# Altium footprint library TerminalBlock_RND.PcbLib: 132 footprints (part 7 of 9)
Each footprint in its own frame and in the unit in brackets; x right, y up, seen from the top. Pads: shape width x height; smd on the part's side, far side on the other; paste and mask are expansions set on the pad; w line width, h text height; cw(c..) or ccw(c..) is an arc to the next point about the centre after c.
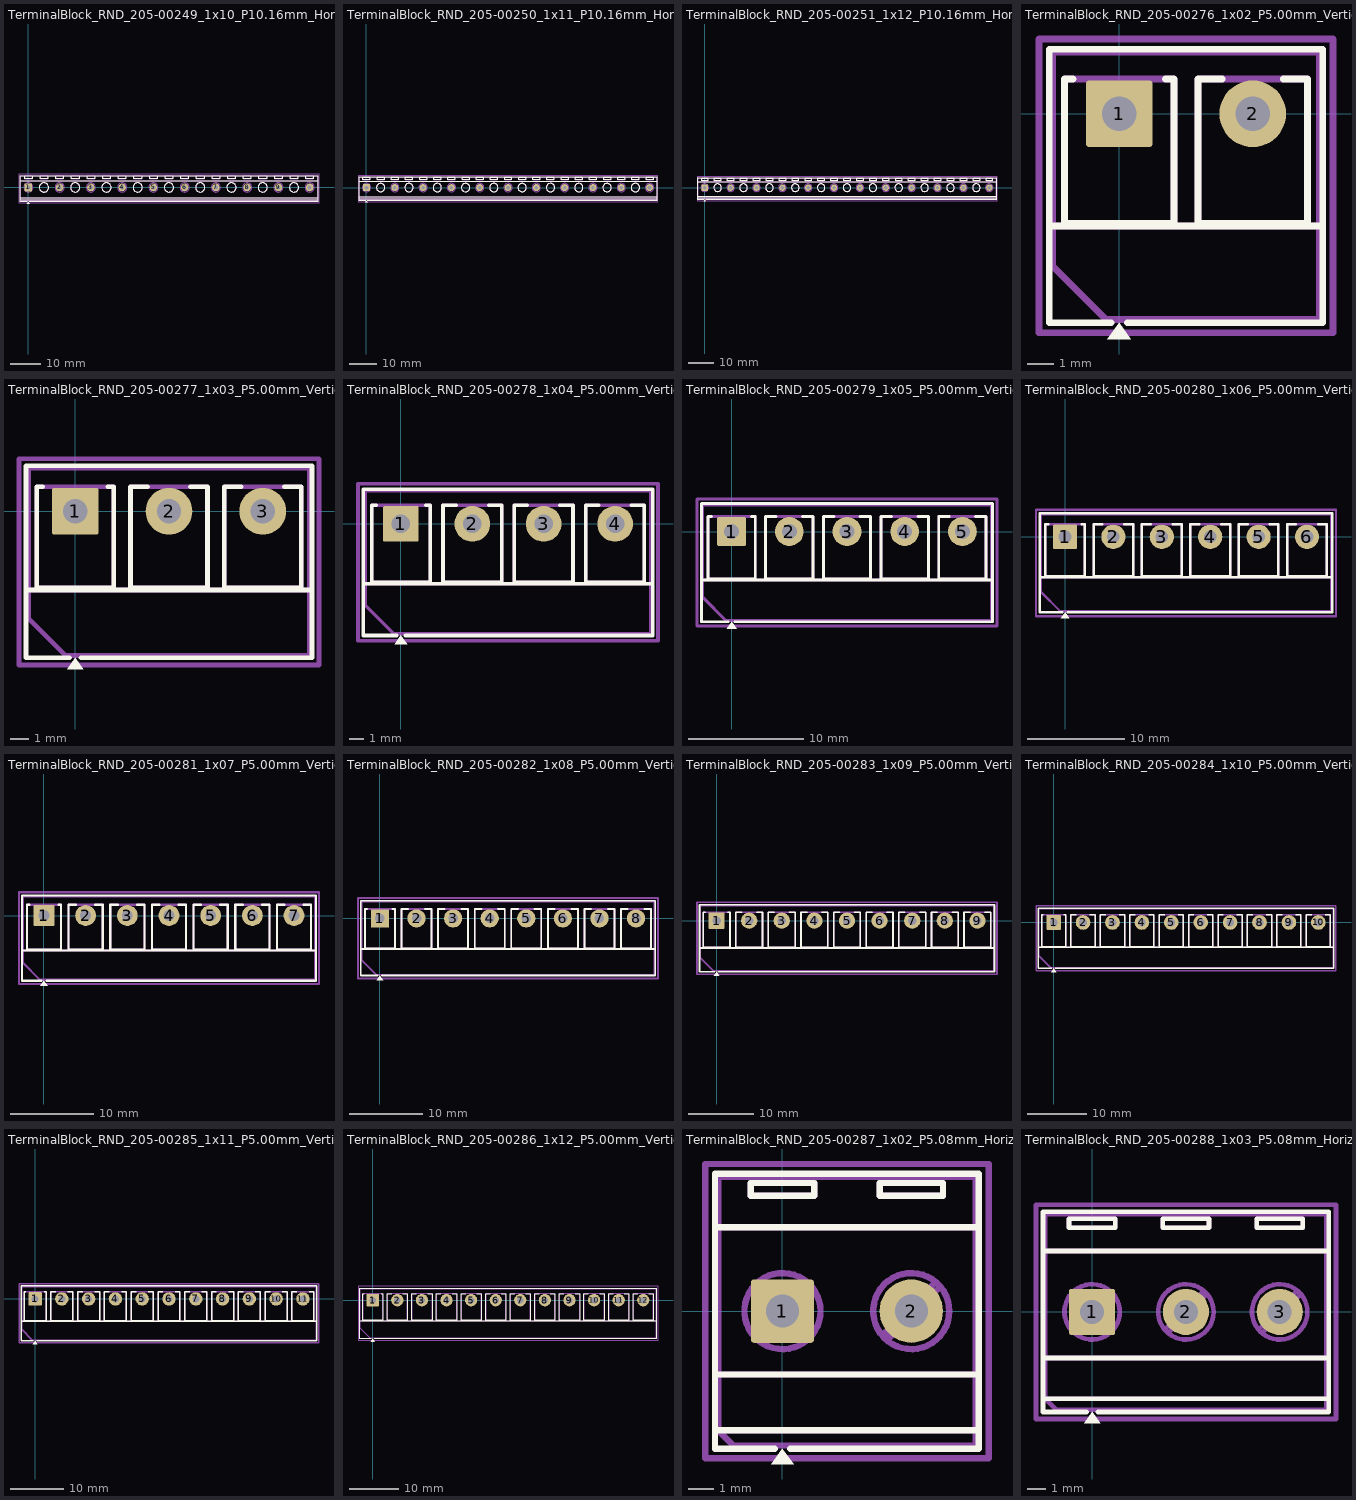
[diagram p6: the footprints below, top view; thin cyan lines are the x and y axes]

## TerminalBlock_RND_205-00249_1x10_P10.16mm_Horizontal [mm]
pads (10):
  rrect10% 2.5x2.5 hole 1.3: 1(0,0)
  round 2.5 hole 1.3: 2(10.16,0) 3(20.32,0) 4(30.48,0) 5(40.64,0) 6(50.8,0) 7(60.96,0) 8(71.12,0) 9(81.28,0) 10(91.44,0)
F.SilkS:
  circle w0.254: c5.08,0 r1.5
  circle w0.254: c15.24,0 r1.5
  circle w0.254: c25.4,0 r1.5
  circle w0.254: c35.56,0 r1.5
  circle w0.254: c45.72,0 r1.5
  circle w0.254: c55.88,0 r1.5
  circle w0.254: c66.04,0 r1.5
  circle w0.254: c76.2,0 r1.5
  circle w0.254: c86.36,0 r1.5
  region: 0.44,-5.28 -0.44,-5.28 0,-4.67
  lines w0.254: -2.66,-3.95 94.1,-3.95 ; -2.66,-3.35 94.1,-3.35 ; -2.66,2.25 94.1,2.25 ; -0.3,-4.67 -2.66,-4.67 -2.66,3.87 94.1,3.87 94.1,-4.67 0.3,-4.67 ; -1.25,2.75 -1.25,3.75 1.25,3.75 1.25,2.75 -1.25,2.75 ; 3.83,2.75 3.83,3.75 6.33,3.75 6.33,2.75 3.83,2.75 ; 8.91,2.75 8.91,3.75 11.41,3.75 11.41,2.75 8.91,2.75 ; 13.99,2.75 13.99,3.75 16.49,3.75 16.49,2.75 13.99,2.75 ; 19.07,2.75 19.07,3.75 21.57,3.75 21.57,2.75 19.07,2.75 ; 24.15,2.75 24.15,3.75 26.65,3.75 26.65,2.75 24.15,2.75 ; 29.23,2.75 29.23,3.75 31.73,3.75 31.73,2.75 29.23,2.75 ; 34.31,2.75 34.31,3.75 36.81,3.75 36.81,2.75 34.31,2.75 ; 39.39,2.75 39.39,3.75 41.89,3.75 41.89,2.75 39.39,2.75 ; 44.47,2.75 44.47,3.75 46.97,3.75 46.97,2.75 44.47,2.75 ; 49.55,2.75 49.55,3.75 52.05,3.75 52.05,2.75 49.55,2.75 ; 54.63,2.75 54.63,3.75 57.13,3.75 57.13,2.75 54.63,2.75 ; 59.71,2.75 59.71,3.75 62.21,3.75 62.21,2.75 59.71,2.75 ; 64.79,2.75 64.79,3.75 67.29,3.75 67.29,2.75 64.79,2.75 ; 69.87,2.75 69.87,3.75 72.37,3.75 72.37,2.75 69.87,2.75 ; 74.95,2.75 74.95,3.75 77.45,3.75 77.45,2.75 74.95,2.75 ; 80.03,2.75 80.03,3.75 82.53,3.75 82.53,2.75 80.03,2.75 ; 85.11,2.75 85.11,3.75 87.61,3.75 87.61,2.75 85.11,2.75 ; 90.19,2.75 90.19,3.75 92.69,3.75 92.69,2.75 90.19,2.75
F.Fab:
  circle w0.254: c0,0 r1.5
  circle w0.254: c5.08,0 r1.5
  circle w0.254: c10.16,0 r1.5
  circle w0.254: c15.24,0 r1.5
  circle w0.254: c20.32,0 r1.5
  circle w0.254: c25.4,0 r1.5
  circle w0.254: c30.48,0 r1.5
  circle w0.254: c35.56,0 r1.5
  circle w0.254: c40.64,0 r1.5
  circle w0.254: c45.72,0 r1.5
  circle w0.254: c50.8,0 r1.5
  circle w0.254: c55.88,0 r1.5
  circle w0.254: c60.96,0 r1.5
  circle w0.254: c66.04,0 r1.5
  circle w0.254: c71.12,0 r1.5
  circle w0.254: c76.2,0 r1.5
  circle w0.254: c81.28,0 r1.5
  circle w0.254: c86.36,0 r1.5
  circle w0.254: c91.44,0 r1.5
  lines w0.254: -2.54,-3.35 93.98,-3.35 ; -2.54,2.25 93.98,2.25 ; -1.138,-0.955 0.955,1.138 ; -0.955,-1.138 1.138,0.955 ; 9.022,-0.955 11.115,1.138 ; 9.205,-1.138 11.298,0.955 ; 19.182,-0.955 21.275,1.138 ; 19.365,-1.138 21.458,0.955 ; 29.342,-0.955 31.435,1.138 ; 29.525,-1.138 31.618,0.955 ; 39.502,-0.955 41.595,1.138 ; 39.685,-1.138 41.778,0.955 ; 49.662,-0.955 51.755,1.138 ; 49.845,-1.138 51.938,0.955 ; 59.822,-0.955 61.915,1.138 ; 60.005,-1.138 62.098,0.955 ; 69.982,-0.955 72.075,1.138 ; 70.165,-1.138 72.258,0.955 ; 80.142,-0.955 82.235,1.138 ; 80.325,-1.138 82.418,0.955 ; 90.302,-0.955 92.395,1.138 ; 90.485,-1.138 92.578,0.955 ; 93.98,-3.95 -2.54,-3.95 ; -2.54,-3.95 -2.54,3.75 93.98,3.75 93.98,-4.55 -1.94,-4.55 -2.54,-3.95 ; -1.25,2.75 -1.25,3.75 1.25,3.75 1.25,2.75 -1.25,2.75 ; 3.83,2.75 3.83,3.75 6.33,3.75 6.33,2.75 3.83,2.75 ; 8.91,2.75 8.91,3.75 11.41,3.75 11.41,2.75 8.91,2.75 ; 13.99,2.75 13.99,3.75 16.49,3.75 16.49,2.75 13.99,2.75 ; 19.07,2.75 19.07,3.75 21.57,3.75 21.57,2.75 19.07,2.75 ; 24.15,2.75 24.15,3.75 26.65,3.75 26.65,2.75 24.15,2.75 ; 29.23,2.75 29.23,3.75 31.73,3.75 31.73,2.75 29.23,2.75 ; 34.31,2.75 34.31,3.75 36.81,3.75 36.81,2.75 34.31,2.75 ; 39.39,2.75 39.39,3.75 41.89,3.75 41.89,2.75 39.39,2.75 ; 44.47,2.75 44.47,3.75 46.97,3.75 46.97,2.75 44.47,2.75 ; 49.55,2.75 49.55,3.75 52.05,3.75 52.05,2.75 49.55,2.75 ; 54.63,2.75 54.63,3.75 57.13,3.75 57.13,2.75 54.63,2.75 ; 59.71,2.75 59.71,3.75 62.21,3.75 62.21,2.75 59.71,2.75 ; 64.79,2.75 64.79,3.75 67.29,3.75 67.29,2.75 64.79,2.75 ; 69.87,2.75 69.87,3.75 72.37,3.75 72.37,2.75 69.87,2.75 ; 74.95,2.75 74.95,3.75 77.45,3.75 77.45,2.75 74.95,2.75 ; 80.03,2.75 80.03,3.75 82.53,3.75 82.53,2.75 80.03,2.75 ; 85.11,2.75 85.11,3.75 87.61,3.75 87.61,2.75 85.11,2.75 ; 90.19,2.75 90.19,3.75 92.69,3.75 92.69,2.75 90.19,2.75
  text "'.Designator'" at 41.673,4.03 h1
F.CrtYd:
  lines w0.254: -3.04,-5.05 -3.04,4.26 94.48,4.26 94.48,-5.05 -3.04,-5.05

## TerminalBlock_RND_205-00250_1x11_P10.16mm_Horizontal [mm]
pads (11):
  rrect10% 2.5x2.5 hole 1.3: 1(0,0)
  round 2.5 hole 1.3: 2(10.16,0) 3(20.32,0) 4(30.48,0) 5(40.64,0) 6(50.8,0) 7(60.96,0) 8(71.12,0) 9(81.28,0) 10(91.44,0) 11(101.6,0)
F.SilkS:
  circle w0.254: c5.08,0 r1.5
  circle w0.254: c15.24,0 r1.5
  circle w0.254: c25.4,0 r1.5
  circle w0.254: c35.56,0 r1.5
  circle w0.254: c45.72,0 r1.5
  circle w0.254: c55.88,0 r1.5
  circle w0.254: c66.04,0 r1.5
  circle w0.254: c76.2,0 r1.5
  circle w0.254: c86.36,0 r1.5
  circle w0.254: c96.52,0 r1.5
  region: 0.44,-5.28 -0.44,-5.28 0,-4.67
  lines w0.254: -2.66,-3.95 104.26,-3.95 ; -2.66,-3.35 104.26,-3.35 ; -2.66,2.25 104.26,2.25 ; -0.3,-4.67 -2.66,-4.67 -2.66,3.87 104.26,3.87 104.26,-4.67 0.3,-4.67 ; -1.25,2.75 -1.25,3.75 1.25,3.75 1.25,2.75 -1.25,2.75 ; 3.83,2.75 3.83,3.75 6.33,3.75 6.33,2.75 3.83,2.75 ; 8.91,2.75 8.91,3.75 11.41,3.75 11.41,2.75 8.91,2.75 ; 13.99,2.75 13.99,3.75 16.49,3.75 16.49,2.75 13.99,2.75 ; 19.07,2.75 19.07,3.75 21.57,3.75 21.57,2.75 19.07,2.75 ; 24.15,2.75 24.15,3.75 26.65,3.75 26.65,2.75 24.15,2.75 ; 29.23,2.75 29.23,3.75 31.73,3.75 31.73,2.75 29.23,2.75 ; 34.31,2.75 34.31,3.75 36.81,3.75 36.81,2.75 34.31,2.75 ; 39.39,2.75 39.39,3.75 41.89,3.75 41.89,2.75 39.39,2.75 ; 44.47,2.75 44.47,3.75 46.97,3.75 46.97,2.75 44.47,2.75 ; 49.55,2.75 49.55,3.75 52.05,3.75 52.05,2.75 49.55,2.75 ; 54.63,2.75 54.63,3.75 57.13,3.75 57.13,2.75 54.63,2.75 ; 59.71,2.75 59.71,3.75 62.21,3.75 62.21,2.75 59.71,2.75 ; 64.79,2.75 64.79,3.75 67.29,3.75 67.29,2.75 64.79,2.75 ; 69.87,2.75 69.87,3.75 72.37,3.75 72.37,2.75 69.87,2.75 ; 74.95,2.75 74.95,3.75 77.45,3.75 77.45,2.75 74.95,2.75 ; 80.03,2.75 80.03,3.75 82.53,3.75 82.53,2.75 80.03,2.75 ; 85.11,2.75 85.11,3.75 87.61,3.75 87.61,2.75 85.11,2.75 ; 90.19,2.75 90.19,3.75 92.69,3.75 92.69,2.75 90.19,2.75 ; 95.27,2.75 95.27,3.75 97.77,3.75 97.77,2.75 95.27,2.75 ; 100.35,2.75 100.35,3.75 102.85,3.75 102.85,2.75 100.35,2.75
F.Fab:
  circle w0.254: c0,0 r1.5
  circle w0.254: c5.08,0 r1.5
  circle w0.254: c10.16,0 r1.5
  circle w0.254: c15.24,0 r1.5
  circle w0.254: c20.32,0 r1.5
  circle w0.254: c25.4,0 r1.5
  circle w0.254: c30.48,0 r1.5
  circle w0.254: c35.56,0 r1.5
  circle w0.254: c40.64,0 r1.5
  circle w0.254: c45.72,0 r1.5
  circle w0.254: c50.8,0 r1.5
  circle w0.254: c55.88,0 r1.5
  circle w0.254: c60.96,0 r1.5
  circle w0.254: c66.04,0 r1.5
  circle w0.254: c71.12,0 r1.5
  circle w0.254: c76.2,0 r1.5
  circle w0.254: c81.28,0 r1.5
  circle w0.254: c86.36,0 r1.5
  circle w0.254: c91.44,0 r1.5
  circle w0.254: c96.52,0 r1.5
  circle w0.254: c101.6,0 r1.5
  lines w0.254: -2.54,-3.35 104.14,-3.35 ; -2.54,2.25 104.14,2.25 ; -1.138,-0.955 0.955,1.138 ; -0.955,-1.138 1.138,0.955 ; 9.022,-0.955 11.115,1.138 ; 9.205,-1.138 11.298,0.955 ; 19.182,-0.955 21.275,1.138 ; 19.365,-1.138 21.458,0.955 ; 29.342,-0.955 31.435,1.138 ; 29.525,-1.138 31.618,0.955 ; 39.502,-0.955 41.595,1.138 ; 39.685,-1.138 41.778,0.955 ; 49.662,-0.955 51.755,1.138 ; 49.845,-1.138 51.938,0.955 ; 59.822,-0.955 61.915,1.138 ; 60.005,-1.138 62.098,0.955 ; 69.982,-0.955 72.075,1.138 ; 70.165,-1.138 72.258,0.955 ; 80.142,-0.955 82.235,1.138 ; 80.325,-1.138 82.418,0.955 ; 90.302,-0.955 92.395,1.138 ; 90.485,-1.138 92.578,0.955 ; 100.462,-0.955 102.555,1.138 ; 100.645,-1.138 102.738,0.955 ; 104.14,-3.95 -2.54,-3.95 ; -2.54,-3.95 -2.54,3.75 104.14,3.75 104.14,-4.55 -1.94,-4.55 -2.54,-3.95 ; -1.25,2.75 -1.25,3.75 1.25,3.75 1.25,2.75 -1.25,2.75 ; 3.83,2.75 3.83,3.75 6.33,3.75 6.33,2.75 3.83,2.75 ; 8.91,2.75 8.91,3.75 11.41,3.75 11.41,2.75 8.91,2.75 ; 13.99,2.75 13.99,3.75 16.49,3.75 16.49,2.75 13.99,2.75 ; 19.07,2.75 19.07,3.75 21.57,3.75 21.57,2.75 19.07,2.75 ; 24.15,2.75 24.15,3.75 26.65,3.75 26.65,2.75 24.15,2.75 ; 29.23,2.75 29.23,3.75 31.73,3.75 31.73,2.75 29.23,2.75 ; 34.31,2.75 34.31,3.75 36.81,3.75 36.81,2.75 34.31,2.75 ; 39.39,2.75 39.39,3.75 41.89,3.75 41.89,2.75 39.39,2.75 ; 44.47,2.75 44.47,3.75 46.97,3.75 46.97,2.75 44.47,2.75 ; 49.55,2.75 49.55,3.75 52.05,3.75 52.05,2.75 49.55,2.75 ; 54.63,2.75 54.63,3.75 57.13,3.75 57.13,2.75 54.63,2.75 ; 59.71,2.75 59.71,3.75 62.21,3.75 62.21,2.75 59.71,2.75 ; 64.79,2.75 64.79,3.75 67.29,3.75 67.29,2.75 64.79,2.75 ; 69.87,2.75 69.87,3.75 72.37,3.75 72.37,2.75 69.87,2.75 ; 74.95,2.75 74.95,3.75 77.45,3.75 77.45,2.75 74.95,2.75 ; 80.03,2.75 80.03,3.75 82.53,3.75 82.53,2.75 80.03,2.75 ; 85.11,2.75 85.11,3.75 87.61,3.75 87.61,2.75 85.11,2.75 ; 90.19,2.75 90.19,3.75 92.69,3.75 92.69,2.75 90.19,2.75 ; 95.27,2.75 95.27,3.75 97.77,3.75 97.77,2.75 95.27,2.75 ; 100.35,2.75 100.35,3.75 102.85,3.75 102.85,2.75 100.35,2.75
  text "'.Designator'" at 46.753,4.03 h1
F.CrtYd:
  lines w0.254: -3.04,-5.05 -3.04,4.26 104.64,4.26 104.64,-5.05 -3.04,-5.05

## TerminalBlock_RND_205-00251_1x12_P10.16mm_Horizontal [mm]
pads (12):
  rrect10% 2.5x2.5 hole 1.3: 1(0,0)
  round 2.5 hole 1.3: 2(10.16,0) 3(20.32,0) 4(30.48,0) 5(40.64,0) 6(50.8,0) 7(60.96,0) 8(71.12,0) 9(81.28,0) 10(91.44,0) 11(101.6,0) 12(111.76,0)
F.SilkS:
  circle w0.254: c5.08,0 r1.5
  circle w0.254: c15.24,0 r1.5
  circle w0.254: c25.4,0 r1.5
  circle w0.254: c35.56,0 r1.5
  circle w0.254: c45.72,0 r1.5
  circle w0.254: c55.88,0 r1.5
  circle w0.254: c66.04,0 r1.5
  circle w0.254: c76.2,0 r1.5
  circle w0.254: c86.36,0 r1.5
  circle w0.254: c96.52,0 r1.5
  circle w0.254: c106.68,0 r1.5
  region: 0.44,-5.28 -0.44,-5.28 0,-4.67
  lines w0.254: -2.66,-3.95 114.42,-3.95 ; -2.66,-3.35 114.42,-3.35 ; -2.66,2.25 114.42,2.25 ; -0.3,-4.67 -2.66,-4.67 -2.66,3.87 114.42,3.87 114.42,-4.67 0.3,-4.67 ; -1.25,2.75 -1.25,3.75 1.25,3.75 1.25,2.75 -1.25,2.75 ; 3.83,2.75 3.83,3.75 6.33,3.75 6.33,2.75 3.83,2.75 ; 8.91,2.75 8.91,3.75 11.41,3.75 11.41,2.75 8.91,2.75 ; 13.99,2.75 13.99,3.75 16.49,3.75 16.49,2.75 13.99,2.75 ; 19.07,2.75 19.07,3.75 21.57,3.75 21.57,2.75 19.07,2.75 ; 24.15,2.75 24.15,3.75 26.65,3.75 26.65,2.75 24.15,2.75 ; 29.23,2.75 29.23,3.75 31.73,3.75 31.73,2.75 29.23,2.75 ; 34.31,2.75 34.31,3.75 36.81,3.75 36.81,2.75 34.31,2.75 ; 39.39,2.75 39.39,3.75 41.89,3.75 41.89,2.75 39.39,2.75 ; 44.47,2.75 44.47,3.75 46.97,3.75 46.97,2.75 44.47,2.75 ; 49.55,2.75 49.55,3.75 52.05,3.75 52.05,2.75 49.55,2.75 ; 54.63,2.75 54.63,3.75 57.13,3.75 57.13,2.75 54.63,2.75 ; 59.71,2.75 59.71,3.75 62.21,3.75 62.21,2.75 59.71,2.75 ; 64.79,2.75 64.79,3.75 67.29,3.75 67.29,2.75 64.79,2.75 ; 69.87,2.75 69.87,3.75 72.37,3.75 72.37,2.75 69.87,2.75 ; 74.95,2.75 74.95,3.75 77.45,3.75 77.45,2.75 74.95,2.75 ; 80.03,2.75 80.03,3.75 82.53,3.75 82.53,2.75 80.03,2.75 ; 85.11,2.75 85.11,3.75 87.61,3.75 87.61,2.75 85.11,2.75 ; 90.19,2.75 90.19,3.75 92.69,3.75 92.69,2.75 90.19,2.75 ; 95.27,2.75 95.27,3.75 97.77,3.75 97.77,2.75 95.27,2.75 ; 100.35,2.75 100.35,3.75 102.85,3.75 102.85,2.75 100.35,2.75 ; 105.43,2.75 105.43,3.75 107.93,3.75 107.93,2.75 105.43,2.75 ; 110.51,2.75 110.51,3.75 113.01,3.75 113.01,2.75 110.51,2.75
F.Fab:
  circle w0.254: c0,0 r1.5
  circle w0.254: c5.08,0 r1.5
  circle w0.254: c10.16,0 r1.5
  circle w0.254: c15.24,0 r1.5
  circle w0.254: c20.32,0 r1.5
  circle w0.254: c25.4,0 r1.5
  circle w0.254: c30.48,0 r1.5
  circle w0.254: c35.56,0 r1.5
  circle w0.254: c40.64,0 r1.5
  circle w0.254: c45.72,0 r1.5
  circle w0.254: c50.8,0 r1.5
  circle w0.254: c55.88,0 r1.5
  circle w0.254: c60.96,0 r1.5
  circle w0.254: c66.04,0 r1.5
  circle w0.254: c71.12,0 r1.5
  circle w0.254: c76.2,0 r1.5
  circle w0.254: c81.28,0 r1.5
  circle w0.254: c86.36,0 r1.5
  circle w0.254: c91.44,0 r1.5
  circle w0.254: c96.52,0 r1.5
  circle w0.254: c101.6,0 r1.5
  circle w0.254: c106.68,0 r1.5
  circle w0.254: c111.76,0 r1.5
  lines w0.254: -2.54,-3.35 114.3,-3.35 ; -2.54,2.25 114.3,2.25 ; -1.138,-0.955 0.955,1.138 ; -0.955,-1.138 1.138,0.955 ; 9.022,-0.955 11.115,1.138 ; 9.205,-1.138 11.298,0.955 ; 19.182,-0.955 21.275,1.138 ; 19.365,-1.138 21.458,0.955 ; 29.342,-0.955 31.435,1.138 ; 29.525,-1.138 31.618,0.955 ; 39.502,-0.955 41.595,1.138 ; 39.685,-1.138 41.778,0.955 ; 49.662,-0.955 51.755,1.138 ; 49.845,-1.138 51.938,0.955 ; 59.822,-0.955 61.915,1.138 ; 60.005,-1.138 62.098,0.955 ; 69.982,-0.955 72.075,1.138 ; 70.165,-1.138 72.258,0.955 ; 80.142,-0.955 82.235,1.138 ; 80.325,-1.138 82.418,0.955 ; 90.302,-0.955 92.395,1.138 ; 90.485,-1.138 92.578,0.955 ; 100.462,-0.955 102.555,1.138 ; 100.645,-1.138 102.738,0.955 ; 110.622,-0.955 112.715,1.138 ; 110.805,-1.138 112.898,0.955 ; 114.3,-3.95 -2.54,-3.95 ; -2.54,-3.95 -2.54,3.75 114.3,3.75 114.3,-4.55 -1.94,-4.55 -2.54,-3.95 ; -1.25,2.75 -1.25,3.75 1.25,3.75 1.25,2.75 -1.25,2.75 ; 3.83,2.75 3.83,3.75 6.33,3.75 6.33,2.75 3.83,2.75 ; 8.91,2.75 8.91,3.75 11.41,3.75 11.41,2.75 8.91,2.75 ; 13.99,2.75 13.99,3.75 16.49,3.75 16.49,2.75 13.99,2.75 ; 19.07,2.75 19.07,3.75 21.57,3.75 21.57,2.75 19.07,2.75 ; 24.15,2.75 24.15,3.75 26.65,3.75 26.65,2.75 24.15,2.75 ; 29.23,2.75 29.23,3.75 31.73,3.75 31.73,2.75 29.23,2.75 ; 34.31,2.75 34.31,3.75 36.81,3.75 36.81,2.75 34.31,2.75 ; 39.39,2.75 39.39,3.75 41.89,3.75 41.89,2.75 39.39,2.75 ; 44.47,2.75 44.47,3.75 46.97,3.75 46.97,2.75 44.47,2.75 ; 49.55,2.75 49.55,3.75 52.05,3.75 52.05,2.75 49.55,2.75 ; 54.63,2.75 54.63,3.75 57.13,3.75 57.13,2.75 54.63,2.75 ; 59.71,2.75 59.71,3.75 62.21,3.75 62.21,2.75 59.71,2.75 ; 64.79,2.75 64.79,3.75 67.29,3.75 67.29,2.75 64.79,2.75 ; 69.87,2.75 69.87,3.75 72.37,3.75 72.37,2.75 69.87,2.75 ; 74.95,2.75 74.95,3.75 77.45,3.75 77.45,2.75 74.95,2.75 ; 80.03,2.75 80.03,3.75 82.53,3.75 82.53,2.75 80.03,2.75 ; 85.11,2.75 85.11,3.75 87.61,3.75 87.61,2.75 85.11,2.75 ; 90.19,2.75 90.19,3.75 92.69,3.75 92.69,2.75 90.19,2.75 ; 95.27,2.75 95.27,3.75 97.77,3.75 97.77,2.75 95.27,2.75 ; 100.35,2.75 100.35,3.75 102.85,3.75 102.85,2.75 100.35,2.75 ; 105.43,2.75 105.43,3.75 107.93,3.75 107.93,2.75 105.43,2.75 ; 110.51,2.75 110.51,3.75 113.01,3.75 113.01,2.75 110.51,2.75
  text "'.Designator'" at 51.833,4.03 h1
F.CrtYd:
  lines w0.254: -3.04,-5.05 -3.04,4.26 114.8,4.26 114.8,-5.05 -3.04,-5.05

## TerminalBlock_RND_205-00276_1x02_P5.00mm_Vertical [mm]
pads (2):
  rrect10% 2.5x2.5 hole 1.3: 1(0,0)
  round 2.5 hole 1.3: 2(5,0)
F.SilkS:
  region: 0.44,-8.43 -0.44,-8.43 0,-7.82
  lines w0.254: -2.62,-4.2 7.62,-4.2 ; -1.73,1.3 -2.05,1.3 -2.05,-4.1 2.05,-4.1 2.05,1.3 1.73,1.3 ; -0.3,-7.82 -2.62,-7.82 -2.62,2.42 7.62,2.42 7.62,-7.82 0.3,-7.82 ; 3.859,1.3 2.95,1.3 2.95,-4.1 7.05,-4.1 7.05,1.3 6.141,1.3
F.Fab:
  lines w0.254: -2.5,-4.2 7.5,-4.2 ; -2.5,-5.7 -2.5,2.3 7.5,2.3 7.5,-7.7 -0.5,-7.7 -2.5,-5.7 ; -2.05,-4.1 -2.05,1.3 2.05,1.3 2.05,-4.1 -2.05,-4.1 ; 2.95,-4.1 2.95,1.3 7.05,1.3 7.05,-4.1 2.95,-4.1
  text "'.Designator'" at -1.547,-6.54 h1
F.CrtYd:
  lines w0.254: -3,-8.2 -3,2.8 8,2.8 8,-8.2 -3,-8.2

## TerminalBlock_RND_205-00277_1x03_P5.00mm_Vertical [mm]
pads (3):
  rrect10% 2.5x2.5 hole 1.3: 1(0,0)
  round 2.5 hole 1.3: 2(5,0) 3(10,0)
F.SilkS:
  region: 0.44,-8.43 -0.44,-8.43 0,-7.82
  lines w0.254: -2.62,-4.2 12.62,-4.2 ; -1.73,1.3 -2.05,1.3 -2.05,-4.1 2.05,-4.1 2.05,1.3 1.73,1.3 ; -0.3,-7.82 -2.62,-7.82 -2.62,2.42 12.62,2.42 12.62,-7.82 0.3,-7.82 ; 3.859,1.3 2.95,1.3 2.95,-4.1 7.05,-4.1 7.05,1.3 6.141,1.3 ; 8.859,1.3 7.95,1.3 7.95,-4.1 12.05,-4.1 12.05,1.3 11.141,1.3
F.Fab:
  lines w0.254: -2.5,-4.2 12.5,-4.2 ; -2.5,-5.7 -2.5,2.3 12.5,2.3 12.5,-7.7 -0.5,-7.7 -2.5,-5.7 ; -2.05,-4.1 -2.05,1.3 2.05,1.3 2.05,-4.1 -2.05,-4.1 ; 2.95,-4.1 2.95,1.3 7.05,1.3 7.05,-4.1 2.95,-4.1 ; 7.95,-4.1 7.95,1.3 12.05,1.3 12.05,-4.1 7.95,-4.1
  text "'.Designator'" at 0.953,-6.54 h1
F.CrtYd:
  lines w0.254: -3,-8.2 -3,2.8 13,2.8 13,-8.2 -3,-8.2

## TerminalBlock_RND_205-00278_1x04_P5.00mm_Vertical [mm]
pads (4):
  rrect10% 2.5x2.5 hole 1.3: 1(0,0)
  round 2.5 hole 1.3: 2(5,0) 3(10,0) 4(15,0)
F.SilkS:
  region: 0.44,-8.43 -0.44,-8.43 0,-7.82
  lines w0.254: -2.62,-4.2 17.62,-4.2 ; -1.73,1.3 -2.05,1.3 -2.05,-4.1 2.05,-4.1 2.05,1.3 1.73,1.3 ; -0.3,-7.82 -2.62,-7.82 -2.62,2.42 17.62,2.42 17.62,-7.82 0.3,-7.82 ; 3.859,1.3 2.95,1.3 2.95,-4.1 7.05,-4.1 7.05,1.3 6.141,1.3 ; 8.859,1.3 7.95,1.3 7.95,-4.1 12.05,-4.1 12.05,1.3 11.141,1.3 ; 13.859,1.3 12.95,1.3 12.95,-4.1 17.05,-4.1 17.05,1.3 16.141,1.3
F.Fab:
  lines w0.254: -2.5,-4.2 17.5,-4.2 ; -2.5,-5.7 -2.5,2.3 17.5,2.3 17.5,-7.7 -0.5,-7.7 -2.5,-5.7 ; -2.05,-4.1 -2.05,1.3 2.05,1.3 2.05,-4.1 -2.05,-4.1 ; 2.95,-4.1 2.95,1.3 7.05,1.3 7.05,-4.1 2.95,-4.1 ; 7.95,-4.1 7.95,1.3 12.05,1.3 12.05,-4.1 7.95,-4.1 ; 12.95,-4.1 12.95,1.3 17.05,1.3 17.05,-4.1 12.95,-4.1
  text "'.Designator'" at 3.453,-6.54 h1
F.CrtYd:
  lines w0.254: -3,-8.2 -3,2.8 18,2.8 18,-8.2 -3,-8.2

## TerminalBlock_RND_205-00279_1x05_P5.00mm_Vertical [mm]
pads (5):
  rrect10% 2.5x2.5 hole 1.3: 1(0,0)
  round 2.5 hole 1.3: 2(5,0) 3(10,0) 4(15,0) 5(20,0)
F.SilkS:
  region: 0.44,-8.43 -0.44,-8.43 0,-7.82
  lines w0.254: -2.62,-4.2 22.62,-4.2 ; -1.73,1.3 -2.05,1.3 -2.05,-4.1 2.05,-4.1 2.05,1.3 1.73,1.3 ; -0.3,-7.82 -2.62,-7.82 -2.62,2.42 22.62,2.42 22.62,-7.82 0.3,-7.82 ; 3.859,1.3 2.95,1.3 2.95,-4.1 7.05,-4.1 7.05,1.3 6.141,1.3 ; 8.859,1.3 7.95,1.3 7.95,-4.1 12.05,-4.1 12.05,1.3 11.141,1.3 ; 13.859,1.3 12.95,1.3 12.95,-4.1 17.05,-4.1 17.05,1.3 16.141,1.3 ; 18.859,1.3 17.95,1.3 17.95,-4.1 22.05,-4.1 22.05,1.3 21.141,1.3
F.Fab:
  lines w0.254: -2.5,-4.2 22.5,-4.2 ; -2.5,-5.7 -2.5,2.3 22.5,2.3 22.5,-7.7 -0.5,-7.7 -2.5,-5.7 ; -2.05,-4.1 -2.05,1.3 2.05,1.3 2.05,-4.1 -2.05,-4.1 ; 2.95,-4.1 2.95,1.3 7.05,1.3 7.05,-4.1 2.95,-4.1 ; 7.95,-4.1 7.95,1.3 12.05,1.3 12.05,-4.1 7.95,-4.1 ; 12.95,-4.1 12.95,1.3 17.05,1.3 17.05,-4.1 12.95,-4.1 ; 17.95,-4.1 17.95,1.3 22.05,1.3 22.05,-4.1 17.95,-4.1
  text "'.Designator'" at 5.953,-6.54 h1
F.CrtYd:
  lines w0.254: -3,-8.2 -3,2.8 23,2.8 23,-8.2 -3,-8.2

## TerminalBlock_RND_205-00280_1x06_P5.00mm_Vertical [mm]
pads (6):
  rrect10% 2.5x2.5 hole 1.3: 1(0,0)
  round 2.5 hole 1.3: 2(5,0) 3(10,0) 4(15,0) 5(20,0) 6(25,0)
F.SilkS:
  region: 0.44,-8.43 -0.44,-8.43 0,-7.82
  lines w0.254: -2.62,-4.2 27.62,-4.2 ; -1.73,1.3 -2.05,1.3 -2.05,-4.1 2.05,-4.1 2.05,1.3 1.73,1.3 ; -0.3,-7.82 -2.62,-7.82 -2.62,2.42 27.62,2.42 27.62,-7.82 0.3,-7.82 ; 3.859,1.3 2.95,1.3 2.95,-4.1 7.05,-4.1 7.05,1.3 6.141,1.3 ; 8.859,1.3 7.95,1.3 7.95,-4.1 12.05,-4.1 12.05,1.3 11.141,1.3 ; 13.859,1.3 12.95,1.3 12.95,-4.1 17.05,-4.1 17.05,1.3 16.141,1.3 ; 18.859,1.3 17.95,1.3 17.95,-4.1 22.05,-4.1 22.05,1.3 21.141,1.3 ; 23.859,1.3 22.95,1.3 22.95,-4.1 27.05,-4.1 27.05,1.3 26.141,1.3
F.Fab:
  lines w0.254: -2.5,-4.2 27.5,-4.2 ; -2.5,-5.7 -2.5,2.3 27.5,2.3 27.5,-7.7 -0.5,-7.7 -2.5,-5.7 ; -2.05,-4.1 -2.05,1.3 2.05,1.3 2.05,-4.1 -2.05,-4.1 ; 2.95,-4.1 2.95,1.3 7.05,1.3 7.05,-4.1 2.95,-4.1 ; 7.95,-4.1 7.95,1.3 12.05,1.3 12.05,-4.1 7.95,-4.1 ; 12.95,-4.1 12.95,1.3 17.05,1.3 17.05,-4.1 12.95,-4.1 ; 17.95,-4.1 17.95,1.3 22.05,1.3 22.05,-4.1 17.95,-4.1 ; 22.95,-4.1 22.95,1.3 27.05,1.3 27.05,-4.1 22.95,-4.1
  text "'.Designator'" at 8.453,-6.54 h1
F.CrtYd:
  lines w0.254: -3,-8.2 -3,2.8 28,2.8 28,-8.2 -3,-8.2

## TerminalBlock_RND_205-00281_1x07_P5.00mm_Vertical [mm]
pads (7):
  rrect10% 2.5x2.5 hole 1.3: 1(0,0)
  round 2.5 hole 1.3: 2(5,0) 3(10,0) 4(15,0) 5(20,0) 6(25,0) 7(30,0)
F.SilkS:
  region: 0.44,-8.43 -0.44,-8.43 0,-7.82
  lines w0.254: -2.62,-4.2 32.62,-4.2 ; -1.73,1.3 -2.05,1.3 -2.05,-4.1 2.05,-4.1 2.05,1.3 1.73,1.3 ; -0.3,-7.82 -2.62,-7.82 -2.62,2.42 32.62,2.42 32.62,-7.82 0.3,-7.82 ; 3.859,1.3 2.95,1.3 2.95,-4.1 7.05,-4.1 7.05,1.3 6.141,1.3 ; 8.859,1.3 7.95,1.3 7.95,-4.1 12.05,-4.1 12.05,1.3 11.141,1.3 ; 13.859,1.3 12.95,1.3 12.95,-4.1 17.05,-4.1 17.05,1.3 16.141,1.3 ; 18.859,1.3 17.95,1.3 17.95,-4.1 22.05,-4.1 22.05,1.3 21.141,1.3 ; 23.859,1.3 22.95,1.3 22.95,-4.1 27.05,-4.1 27.05,1.3 26.141,1.3 ; 28.859,1.3 27.95,1.3 27.95,-4.1 32.05,-4.1 32.05,1.3 31.141,1.3
F.Fab:
  lines w0.254: -2.5,-4.2 32.5,-4.2 ; -2.5,-5.7 -2.5,2.3 32.5,2.3 32.5,-7.7 -0.5,-7.7 -2.5,-5.7 ; -2.05,-4.1 -2.05,1.3 2.05,1.3 2.05,-4.1 -2.05,-4.1 ; 2.95,-4.1 2.95,1.3 7.05,1.3 7.05,-4.1 2.95,-4.1 ; 7.95,-4.1 7.95,1.3 12.05,1.3 12.05,-4.1 7.95,-4.1 ; 12.95,-4.1 12.95,1.3 17.05,1.3 17.05,-4.1 12.95,-4.1 ; 17.95,-4.1 17.95,1.3 22.05,1.3 22.05,-4.1 17.95,-4.1 ; 22.95,-4.1 22.95,1.3 27.05,1.3 27.05,-4.1 22.95,-4.1 ; 27.95,-4.1 27.95,1.3 32.05,1.3 32.05,-4.1 27.95,-4.1
  text "'.Designator'" at 10.953,-6.54 h1
F.CrtYd:
  lines w0.254: -3,-8.2 -3,2.8 33,2.8 33,-8.2 -3,-8.2

## TerminalBlock_RND_205-00282_1x08_P5.00mm_Vertical [mm]
pads (8):
  rrect10% 2.5x2.5 hole 1.3: 1(0,0)
  round 2.5 hole 1.3: 2(5,0) 3(10,0) 4(15,0) 5(20,0) 6(25,0) 7(30,0) 8(35,0)
F.SilkS:
  region: 0.44,-8.43 -0.44,-8.43 0,-7.82
  lines w0.254: -2.62,-4.2 37.62,-4.2 ; -1.73,1.3 -2.05,1.3 -2.05,-4.1 2.05,-4.1 2.05,1.3 1.73,1.3 ; -0.3,-7.82 -2.62,-7.82 -2.62,2.42 37.62,2.42 37.62,-7.82 0.3,-7.82 ; 3.859,1.3 2.95,1.3 2.95,-4.1 7.05,-4.1 7.05,1.3 6.141,1.3 ; 8.859,1.3 7.95,1.3 7.95,-4.1 12.05,-4.1 12.05,1.3 11.141,1.3 ; 13.859,1.3 12.95,1.3 12.95,-4.1 17.05,-4.1 17.05,1.3 16.141,1.3 ; 18.859,1.3 17.95,1.3 17.95,-4.1 22.05,-4.1 22.05,1.3 21.141,1.3 ; 23.859,1.3 22.95,1.3 22.95,-4.1 27.05,-4.1 27.05,1.3 26.141,1.3 ; 28.859,1.3 27.95,1.3 27.95,-4.1 32.05,-4.1 32.05,1.3 31.141,1.3 ; 33.859,1.3 32.95,1.3 32.95,-4.1 37.05,-4.1 37.05,1.3 36.141,1.3
F.Fab:
  lines w0.254: -2.5,-4.2 37.5,-4.2 ; -2.5,-5.7 -2.5,2.3 37.5,2.3 37.5,-7.7 -0.5,-7.7 -2.5,-5.7 ; -2.05,-4.1 -2.05,1.3 2.05,1.3 2.05,-4.1 -2.05,-4.1 ; 2.95,-4.1 2.95,1.3 7.05,1.3 7.05,-4.1 2.95,-4.1 ; 7.95,-4.1 7.95,1.3 12.05,1.3 12.05,-4.1 7.95,-4.1 ; 12.95,-4.1 12.95,1.3 17.05,1.3 17.05,-4.1 12.95,-4.1 ; 17.95,-4.1 17.95,1.3 22.05,1.3 22.05,-4.1 17.95,-4.1 ; 22.95,-4.1 22.95,1.3 27.05,1.3 27.05,-4.1 22.95,-4.1 ; 27.95,-4.1 27.95,1.3 32.05,1.3 32.05,-4.1 27.95,-4.1 ; 32.95,-4.1 32.95,1.3 37.05,1.3 37.05,-4.1 32.95,-4.1
  text "'.Designator'" at 13.453,-6.54 h1
F.CrtYd:
  lines w0.254: -3,-8.2 -3,2.8 38,2.8 38,-8.2 -3,-8.2

## TerminalBlock_RND_205-00283_1x09_P5.00mm_Vertical [mm]
pads (9):
  rrect10% 2.5x2.5 hole 1.3: 1(0,0)
  round 2.5 hole 1.3: 2(5,0) 3(10,0) 4(15,0) 5(20,0) 6(25,0) 7(30,0) 8(35,0) 9(40,0)
F.SilkS:
  region: 0.44,-8.43 -0.44,-8.43 0,-7.82
  lines w0.254: -2.62,-4.2 42.62,-4.2 ; -1.73,1.3 -2.05,1.3 -2.05,-4.1 2.05,-4.1 2.05,1.3 1.73,1.3 ; -0.3,-7.82 -2.62,-7.82 -2.62,2.42 42.62,2.42 42.62,-7.82 0.3,-7.82 ; 3.859,1.3 2.95,1.3 2.95,-4.1 7.05,-4.1 7.05,1.3 6.141,1.3 ; 8.859,1.3 7.95,1.3 7.95,-4.1 12.05,-4.1 12.05,1.3 11.141,1.3 ; 13.859,1.3 12.95,1.3 12.95,-4.1 17.05,-4.1 17.05,1.3 16.141,1.3 ; 18.859,1.3 17.95,1.3 17.95,-4.1 22.05,-4.1 22.05,1.3 21.141,1.3 ; 23.859,1.3 22.95,1.3 22.95,-4.1 27.05,-4.1 27.05,1.3 26.141,1.3 ; 28.859,1.3 27.95,1.3 27.95,-4.1 32.05,-4.1 32.05,1.3 31.141,1.3 ; 33.859,1.3 32.95,1.3 32.95,-4.1 37.05,-4.1 37.05,1.3 36.141,1.3 ; 38.859,1.3 37.95,1.3 37.95,-4.1 42.05,-4.1 42.05,1.3 41.141,1.3
F.Fab:
  lines w0.254: -2.5,-4.2 42.5,-4.2 ; -2.5,-5.7 -2.5,2.3 42.5,2.3 42.5,-7.7 -0.5,-7.7 -2.5,-5.7 ; -2.05,-4.1 -2.05,1.3 2.05,1.3 2.05,-4.1 -2.05,-4.1 ; 2.95,-4.1 2.95,1.3 7.05,1.3 7.05,-4.1 2.95,-4.1 ; 7.95,-4.1 7.95,1.3 12.05,1.3 12.05,-4.1 7.95,-4.1 ; 12.95,-4.1 12.95,1.3 17.05,1.3 17.05,-4.1 12.95,-4.1 ; 17.95,-4.1 17.95,1.3 22.05,1.3 22.05,-4.1 17.95,-4.1 ; 22.95,-4.1 22.95,1.3 27.05,1.3 27.05,-4.1 22.95,-4.1 ; 27.95,-4.1 27.95,1.3 32.05,1.3 32.05,-4.1 27.95,-4.1 ; 32.95,-4.1 32.95,1.3 37.05,1.3 37.05,-4.1 32.95,-4.1 ; 37.95,-4.1 37.95,1.3 42.05,1.3 42.05,-4.1 37.95,-4.1
  text "'.Designator'" at 15.953,-6.54 h1
F.CrtYd:
  lines w0.254: -3,-8.2 -3,2.8 43,2.8 43,-8.2 -3,-8.2

## TerminalBlock_RND_205-00284_1x10_P5.00mm_Vertical [mm]
pads (10):
  rrect10% 2.5x2.5 hole 1.3: 1(0,0)
  round 2.5 hole 1.3: 2(5,0) 3(10,0) 4(15,0) 5(20,0) 6(25,0) 7(30,0) 8(35,0) 9(40,0) 10(45,0)
F.SilkS:
  region: 0.44,-8.43 -0.44,-8.43 0,-7.82
  lines w0.254: -2.62,-4.2 47.62,-4.2 ; -1.73,1.3 -2.05,1.3 -2.05,-4.1 2.05,-4.1 2.05,1.3 1.73,1.3 ; -0.3,-7.82 -2.62,-7.82 -2.62,2.42 47.62,2.42 47.62,-7.82 0.3,-7.82 ; 3.859,1.3 2.95,1.3 2.95,-4.1 7.05,-4.1 7.05,1.3 6.141,1.3 ; 8.859,1.3 7.95,1.3 7.95,-4.1 12.05,-4.1 12.05,1.3 11.141,1.3 ; 13.859,1.3 12.95,1.3 12.95,-4.1 17.05,-4.1 17.05,1.3 16.141,1.3 ; 18.859,1.3 17.95,1.3 17.95,-4.1 22.05,-4.1 22.05,1.3 21.141,1.3 ; 23.859,1.3 22.95,1.3 22.95,-4.1 27.05,-4.1 27.05,1.3 26.141,1.3 ; 28.859,1.3 27.95,1.3 27.95,-4.1 32.05,-4.1 32.05,1.3 31.141,1.3 ; 33.859,1.3 32.95,1.3 32.95,-4.1 37.05,-4.1 37.05,1.3 36.141,1.3 ; 38.859,1.3 37.95,1.3 37.95,-4.1 42.05,-4.1 42.05,1.3 41.141,1.3 ; 43.859,1.3 42.95,1.3 42.95,-4.1 47.05,-4.1 47.05,1.3 46.141,1.3
F.Fab:
  lines w0.254: -2.5,-4.2 47.5,-4.2 ; -2.5,-5.7 -2.5,2.3 47.5,2.3 47.5,-7.7 -0.5,-7.7 -2.5,-5.7 ; -2.05,-4.1 -2.05,1.3 2.05,1.3 2.05,-4.1 -2.05,-4.1 ; 2.95,-4.1 2.95,1.3 7.05,1.3 7.05,-4.1 2.95,-4.1 ; 7.95,-4.1 7.95,1.3 12.05,1.3 12.05,-4.1 7.95,-4.1 ; 12.95,-4.1 12.95,1.3 17.05,1.3 17.05,-4.1 12.95,-4.1 ; 17.95,-4.1 17.95,1.3 22.05,1.3 22.05,-4.1 17.95,-4.1 ; 22.95,-4.1 22.95,1.3 27.05,1.3 27.05,-4.1 22.95,-4.1 ; 27.95,-4.1 27.95,1.3 32.05,1.3 32.05,-4.1 27.95,-4.1 ; 32.95,-4.1 32.95,1.3 37.05,1.3 37.05,-4.1 32.95,-4.1 ; 37.95,-4.1 37.95,1.3 42.05,1.3 42.05,-4.1 37.95,-4.1 ; 42.95,-4.1 42.95,1.3 47.05,1.3 47.05,-4.1 42.95,-4.1
  text "'.Designator'" at 18.453,-6.54 h1
F.CrtYd:
  lines w0.254: -3,-8.2 -3,2.8 48,2.8 48,-8.2 -3,-8.2

## TerminalBlock_RND_205-00285_1x11_P5.00mm_Vertical [mm]
pads (11):
  rrect10% 2.5x2.5 hole 1.3: 1(0,0)
  round 2.5 hole 1.3: 2(5,0) 3(10,0) 4(15,0) 5(20,0) 6(25,0) 7(30,0) 8(35,0) 9(40,0) 10(45,0) 11(50,0)
F.SilkS:
  region: 0.44,-8.43 -0.44,-8.43 0,-7.82
  lines w0.254: -2.62,-4.2 52.62,-4.2 ; -1.73,1.3 -2.05,1.3 -2.05,-4.1 2.05,-4.1 2.05,1.3 1.73,1.3 ; -0.3,-7.82 -2.62,-7.82 -2.62,2.42 52.62,2.42 52.62,-7.82 0.3,-7.82 ; 3.859,1.3 2.95,1.3 2.95,-4.1 7.05,-4.1 7.05,1.3 6.141,1.3 ; 8.859,1.3 7.95,1.3 7.95,-4.1 12.05,-4.1 12.05,1.3 11.141,1.3 ; 13.859,1.3 12.95,1.3 12.95,-4.1 17.05,-4.1 17.05,1.3 16.141,1.3 ; 18.859,1.3 17.95,1.3 17.95,-4.1 22.05,-4.1 22.05,1.3 21.141,1.3 ; 23.859,1.3 22.95,1.3 22.95,-4.1 27.05,-4.1 27.05,1.3 26.141,1.3 ; 28.859,1.3 27.95,1.3 27.95,-4.1 32.05,-4.1 32.05,1.3 31.141,1.3 ; 33.859,1.3 32.95,1.3 32.95,-4.1 37.05,-4.1 37.05,1.3 36.141,1.3 ; 38.859,1.3 37.95,1.3 37.95,-4.1 42.05,-4.1 42.05,1.3 41.141,1.3 ; 43.859,1.3 42.95,1.3 42.95,-4.1 47.05,-4.1 47.05,1.3 46.141,1.3 ; 48.859,1.3 47.95,1.3 47.95,-4.1 52.05,-4.1 52.05,1.3 51.141,1.3
F.Fab:
  lines w0.254: -2.5,-4.2 52.5,-4.2 ; -2.5,-5.7 -2.5,2.3 52.5,2.3 52.5,-7.7 -0.5,-7.7 -2.5,-5.7 ; -2.05,-4.1 -2.05,1.3 2.05,1.3 2.05,-4.1 -2.05,-4.1 ; 2.95,-4.1 2.95,1.3 7.05,1.3 7.05,-4.1 2.95,-4.1 ; 7.95,-4.1 7.95,1.3 12.05,1.3 12.05,-4.1 7.95,-4.1 ; 12.95,-4.1 12.95,1.3 17.05,1.3 17.05,-4.1 12.95,-4.1 ; 17.95,-4.1 17.95,1.3 22.05,1.3 22.05,-4.1 17.95,-4.1 ; 22.95,-4.1 22.95,1.3 27.05,1.3 27.05,-4.1 22.95,-4.1 ; 27.95,-4.1 27.95,1.3 32.05,1.3 32.05,-4.1 27.95,-4.1 ; 32.95,-4.1 32.95,1.3 37.05,1.3 37.05,-4.1 32.95,-4.1 ; 37.95,-4.1 37.95,1.3 42.05,1.3 42.05,-4.1 37.95,-4.1 ; 42.95,-4.1 42.95,1.3 47.05,1.3 47.05,-4.1 42.95,-4.1 ; 47.95,-4.1 47.95,1.3 52.05,1.3 52.05,-4.1 47.95,-4.1
  text "'.Designator'" at 20.953,-6.54 h1
F.CrtYd:
  lines w0.254: -3,-8.2 -3,2.8 53,2.8 53,-8.2 -3,-8.2

## TerminalBlock_RND_205-00286_1x12_P5.00mm_Vertical [mm]
pads (12):
  rrect10% 2.5x2.5 hole 1.3: 1(0,0)
  round 2.5 hole 1.3: 2(5,0) 3(10,0) 4(15,0) 5(20,0) 6(25,0) 7(30,0) 8(35,0) 9(40,0) 10(45,0) 11(50,0) 12(55,0)
F.SilkS:
  region: 0.44,-8.43 -0.44,-8.43 0,-7.82
  lines w0.254: -2.62,-4.2 57.62,-4.2 ; -1.73,1.3 -2.05,1.3 -2.05,-4.1 2.05,-4.1 2.05,1.3 1.73,1.3 ; -0.3,-7.82 -2.62,-7.82 -2.62,2.42 57.62,2.42 57.62,-7.82 0.3,-7.82 ; 3.859,1.3 2.95,1.3 2.95,-4.1 7.05,-4.1 7.05,1.3 6.141,1.3 ; 8.859,1.3 7.95,1.3 7.95,-4.1 12.05,-4.1 12.05,1.3 11.141,1.3 ; 13.859,1.3 12.95,1.3 12.95,-4.1 17.05,-4.1 17.05,1.3 16.141,1.3 ; 18.859,1.3 17.95,1.3 17.95,-4.1 22.05,-4.1 22.05,1.3 21.141,1.3 ; 23.859,1.3 22.95,1.3 22.95,-4.1 27.05,-4.1 27.05,1.3 26.141,1.3 ; 28.859,1.3 27.95,1.3 27.95,-4.1 32.05,-4.1 32.05,1.3 31.141,1.3 ; 33.859,1.3 32.95,1.3 32.95,-4.1 37.05,-4.1 37.05,1.3 36.141,1.3 ; 38.859,1.3 37.95,1.3 37.95,-4.1 42.05,-4.1 42.05,1.3 41.141,1.3 ; 43.859,1.3 42.95,1.3 42.95,-4.1 47.05,-4.1 47.05,1.3 46.141,1.3 ; 48.859,1.3 47.95,1.3 47.95,-4.1 52.05,-4.1 52.05,1.3 51.141,1.3 ; 53.859,1.3 52.95,1.3 52.95,-4.1 57.05,-4.1 57.05,1.3 56.141,1.3
F.Fab:
  lines w0.254: -2.5,-4.2 57.5,-4.2 ; -2.5,-5.7 -2.5,2.3 57.5,2.3 57.5,-7.7 -0.5,-7.7 -2.5,-5.7 ; -2.05,-4.1 -2.05,1.3 2.05,1.3 2.05,-4.1 -2.05,-4.1 ; 2.95,-4.1 2.95,1.3 7.05,1.3 7.05,-4.1 2.95,-4.1 ; 7.95,-4.1 7.95,1.3 12.05,1.3 12.05,-4.1 7.95,-4.1 ; 12.95,-4.1 12.95,1.3 17.05,1.3 17.05,-4.1 12.95,-4.1 ; 17.95,-4.1 17.95,1.3 22.05,1.3 22.05,-4.1 17.95,-4.1 ; 22.95,-4.1 22.95,1.3 27.05,1.3 27.05,-4.1 22.95,-4.1 ; 27.95,-4.1 27.95,1.3 32.05,1.3 32.05,-4.1 27.95,-4.1 ; 32.95,-4.1 32.95,1.3 37.05,1.3 37.05,-4.1 32.95,-4.1 ; 37.95,-4.1 37.95,1.3 42.05,1.3 42.05,-4.1 37.95,-4.1 ; 42.95,-4.1 42.95,1.3 47.05,1.3 47.05,-4.1 42.95,-4.1 ; 47.95,-4.1 47.95,1.3 52.05,1.3 52.05,-4.1 47.95,-4.1 ; 52.95,-4.1 52.95,1.3 57.05,1.3 57.05,-4.1 52.95,-4.1
  text "'.Designator'" at 23.453,-6.54 h1
F.CrtYd:
  lines w0.254: -3,-8.2 -3,2.8 58,2.8 58,-8.2 -3,-8.2

## TerminalBlock_RND_205-00287_1x02_P5.08mm_Horizontal [mm]
pads (2):
  rrect10% 2.5x2.5 hole 1.3: 1(0,0)
  round 2.5 hole 1.3: 2(5.08,0)
F.SilkS:
  region: 0.44,-6.03 -0.44,-6.03 0,-5.42
  lines w0.254: -2.66,-4.7 7.74,-4.7 ; -2.66,-2.5 7.74,-2.5 ; -2.66,3.3 7.74,3.3 ; -0.3,-5.42 -2.66,-5.42 -2.66,5.42 7.74,5.42 7.74,-5.42 0.3,-5.42 ; -1.25,4.55 -1.25,5.05 1.25,5.05 1.25,4.55 -1.25,4.55 ; 3.83,4.55 3.83,5.05 6.33,5.05 6.33,4.55 3.83,4.55
F.Fab:
  circle w0.254: c0,0 r1.5
  circle w0.254: c5.08,0 r1.5
  lines w0.254: -2.54,-2.5 7.62,-2.5 ; -2.54,3.3 7.62,3.3 ; -1.138,-0.955 0.955,1.138 ; -0.955,-1.138 1.138,0.955 ; 3.942,-0.955 6.035,1.138 ; 4.125,-1.138 6.218,0.955 ; 7.62,-4.7 -2.54,-4.7 ; -2.54,-4.7 -2.54,5.3 7.62,5.3 7.62,-5.3 -1.94,-5.3 -2.54,-4.7 ; -1.25,4.55 -1.25,5.05 1.25,5.05 1.25,4.55 -1.25,4.55 ; 3.83,4.55 3.83,5.05 6.33,5.05 6.33,4.55 3.83,4.55
  text "'.Designator'" at -1.507,5.58 h1
F.CrtYd:
  lines w0.254: -3.04,-5.8 -3.04,5.8 8.13,5.8 8.13,-5.8 -3.04,-5.8

## TerminalBlock_RND_205-00288_1x03_P5.08mm_Horizontal [mm]
pads (3):
  rrect10% 2.5x2.5 hole 1.3: 1(0,0)
  round 2.5 hole 1.3: 2(5.08,0) 3(10.16,0)
F.SilkS:
  region: 0.44,-6.03 -0.44,-6.03 0,-5.42
  lines w0.254: -2.66,-4.7 12.82,-4.7 ; -2.66,-2.5 12.82,-2.5 ; -2.66,3.3 12.82,3.3 ; -0.3,-5.42 -2.66,-5.42 -2.66,5.42 12.82,5.42 12.82,-5.42 0.3,-5.42 ; -1.25,4.55 -1.25,5.05 1.25,5.05 1.25,4.55 -1.25,4.55 ; 3.83,4.55 3.83,5.05 6.33,5.05 6.33,4.55 3.83,4.55 ; 8.91,4.55 8.91,5.05 11.41,5.05 11.41,4.55 8.91,4.55
F.Fab:
  circle w0.254: c0,0 r1.5
  circle w0.254: c5.08,0 r1.5
  circle w0.254: c10.16,0 r1.5
  lines w0.254: -2.54,-2.5 12.7,-2.5 ; -2.54,3.3 12.7,3.3 ; -1.138,-0.955 0.955,1.138 ; -0.955,-1.138 1.138,0.955 ; 3.942,-0.955 6.035,1.138 ; 4.125,-1.138 6.218,0.955 ; 9.022,-0.955 11.115,1.138 ; 9.205,-1.138 11.298,0.955 ; 12.7,-4.7 -2.54,-4.7 ; -2.54,-4.7 -2.54,5.3 12.7,5.3 12.7,-5.3 -1.94,-5.3 -2.54,-4.7 ; -1.25,4.55 -1.25,5.05 1.25,5.05 1.25,4.55 -1.25,4.55 ; 3.83,4.55 3.83,5.05 6.33,5.05 6.33,4.55 3.83,4.55 ; 8.91,4.55 8.91,5.05 11.41,5.05 11.41,4.55 8.91,4.55
  text "'.Designator'" at 1.033,5.58 h1
F.CrtYd:
  lines w0.254: -3.04,-5.8 -3.04,5.8 13.21,5.8 13.21,-5.8 -3.04,-5.8